# Altium footprint library Lab7_altium.PcbLib: 4 footprints
Each footprint in its own frame and in the unit in brackets; x right, y up, seen from the top. Pads: shape width x height; smd on the part's side, far side on the other; paste and mask are expansions set on the pad; w line width, h text height; cw(c..) or ccw(c..) is an arc to the next point about the centre after c.
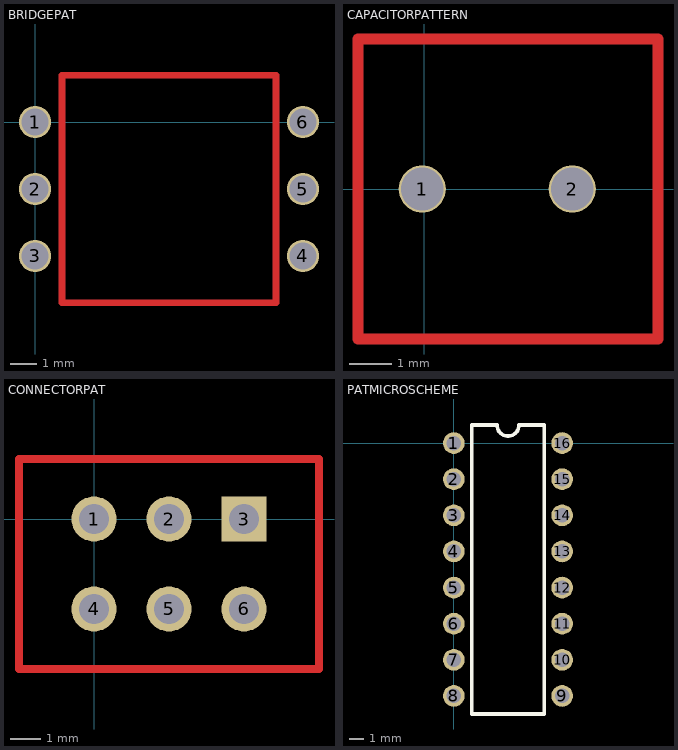
[diagram p0: the footprints below, top view; thin cyan lines are the x and y axes]

## BRIDGEPAT [mm]
pads (6):
  round 1.2 hole 1: 1(0,0) 2(0,-2.5) 3(0,-5) 4(10,-5) 5(10,-2.5) 6(10,0)
Top Layer:
  lines w0.254: 1,-6.75 9,-6.75 9,1.75 1,1.75 1,-6.75

## CAPACITORPATTERN [mm]
pads (2):
  round 1.1 hole 1: 1(-0.04,0) 2(3.46,0)
Top Layer:
  lines w0.254: -1.54,-3.5 5.46,-3.5 5.46,3.5 -1.54,3.5 -1.54,-3.5

## CONNECTORPAT [mm]
pads (6):
  round 1.5 hole 1: 1(0,0) 2(2.5,0) 4(0,-3) 5(2.5,-3) 6(5,-3)
  rect 1.5x1.5 hole 1: 3(5,0)
Top Layer:
  lines w0.254: -2.5,-5 7.5,-5 7.5,2 -2.5,2 -2.5,-5

## PATMICROSCHEME [mm]
pads (16):
  round 1.5 hole 1: 1(0,0) 2(0,-2.5) 3(0,-5) 4(0,-7.5) 5(0,-10) 6(0,-12.5) 7(0,-15) 8(0,-17.5) 9(7.5,-17.5) 10(7.5,-15) 11(7.5,-12.5) 12(7.5,-10) 13(7.5,-7.5) 14(7.5,-5) 15(7.5,-2.5) 16(7.5,0)
Top Overlay:
  lines w0.254: 1.25,-18.75 6.25,-18.75 6.25,1.25 4.512,1.25 cw(c3.75,1.25) 2.988,1.25 1.25,1.25 1.25,-18.75